# EAGLE library part TRANSISTOR-DUAL-PNP (library IntegerLabs)
PNP Transistor
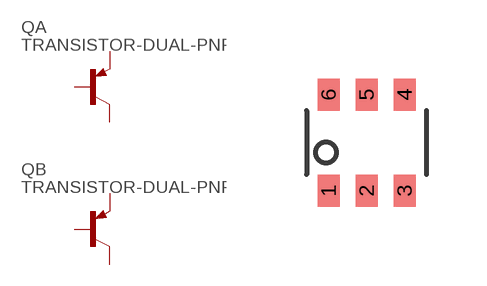
[diagram p25: symbol with the pads of SOT-26; footprint SOT-26]

Designator prefix Q; gates A=PNP B=PNP

## TRANSISTOR-DUAL-PNP  [SOT-26]
1  A:C  pas
2  A:B  pas
3  B:B  pas
4  B:C  pas
5  B:E  pas
6  A:E  pas

## Footprint SOT-26 (pad centres in mm)
smd 0.55 x 0.8: 1 -0.95,-1.2; 2 0,-1.2; 3 0.95,-1.2; 4 0.95,1.2; 5 0,1.2; 6 -0.95,1.2